# Altium footprint library SolderStation.PcbLib: 37 footprints (part 2 of 3)
Each footprint in its own frame and in the unit in brackets; x right, y up, seen from the top. Pads: shape width x height; smd on the part's side, far side on the other; paste and mask are expansions set on the pad; w line width, h text height; cw(c..) or ccw(c..) is an arc to the next point about the centre after c.
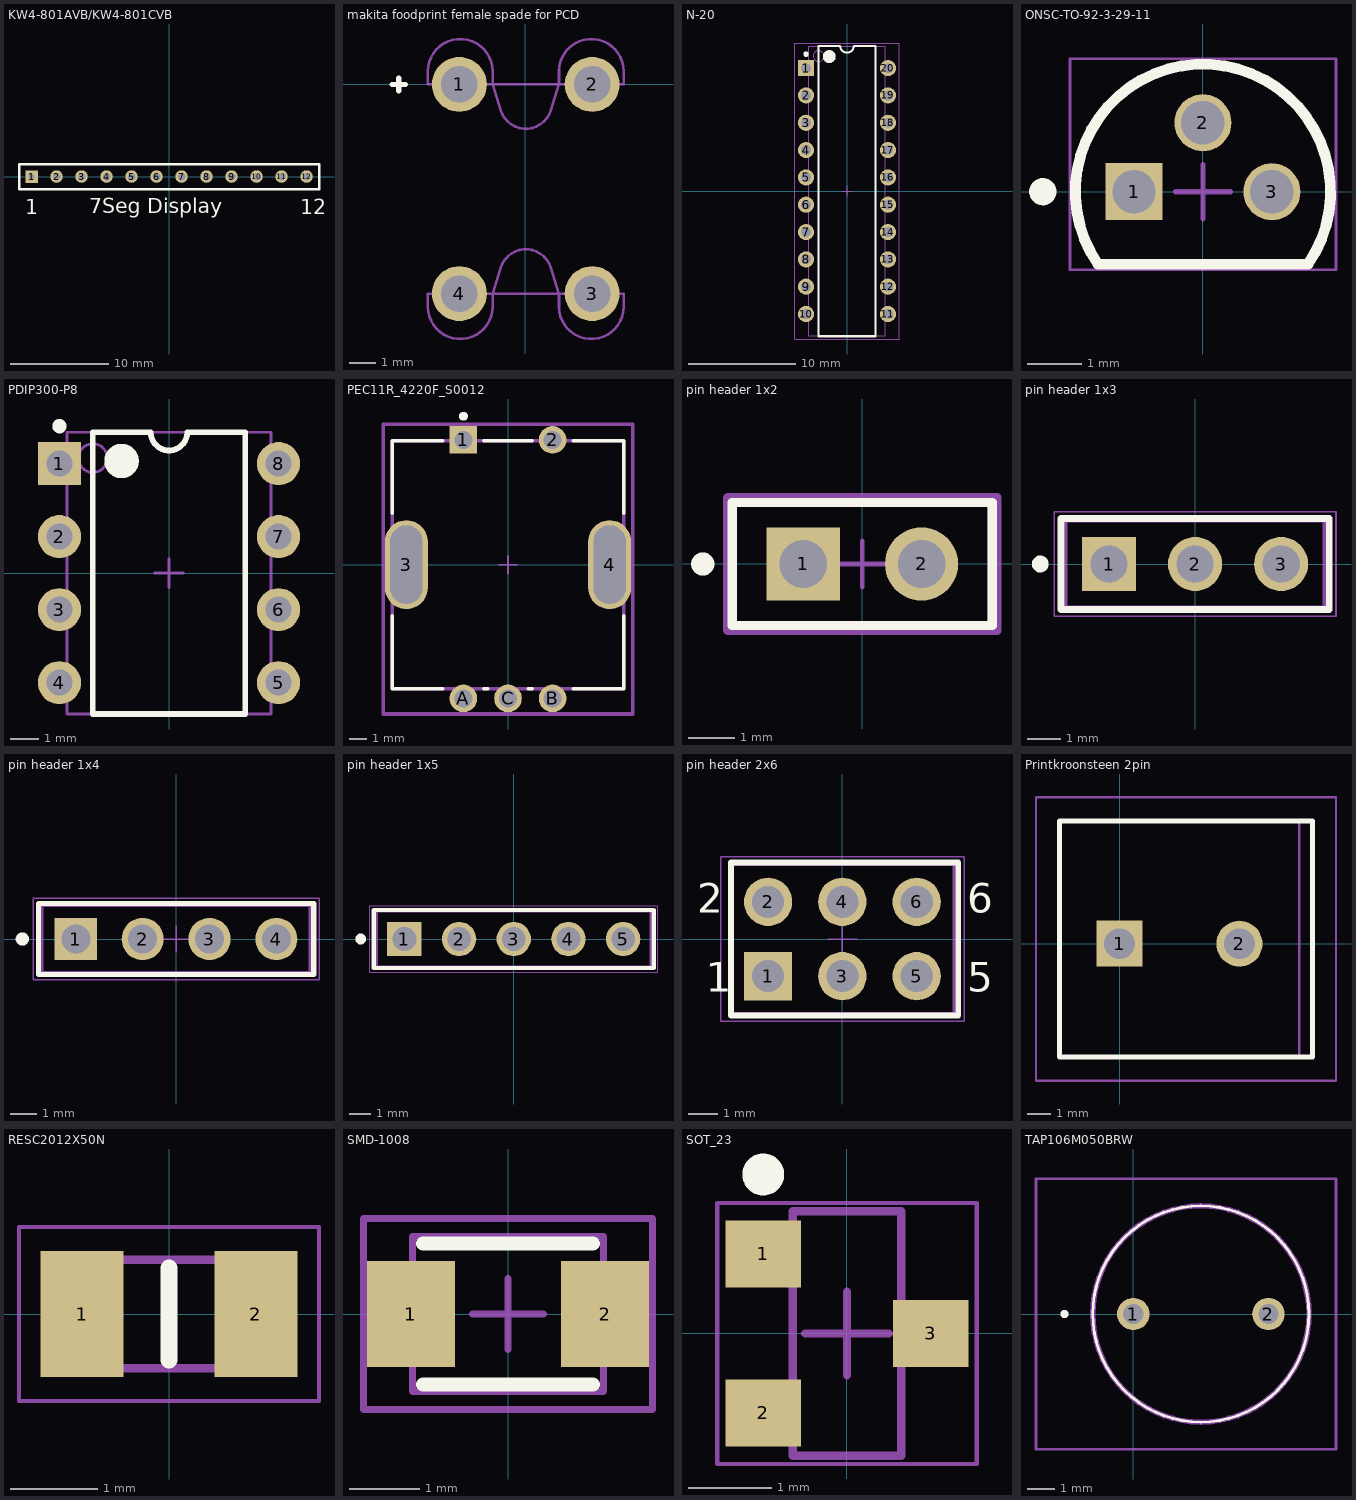
[diagram p1: the footprints below, top view; thin cyan lines are the x and y axes]

## KW4-801AVB/KW4-801CVB [mil] "7_segent display"
pads (12):
  rect 50x50 hole 25: 1(-550,0)
  round 50 hole 30: 2(-450,0) 3(-350,0) 4(-250,0) 5(-150,0) 6(-50,0) 7(50,0) 8(150,0) 9(250,0) 10(350,0) 11(450,0) 12(550,0)
Top Overlay:
  lines w10: -600,-50 600,-50 600,50 -600,50 -600,-50
  text "7Seg Display" at -320,-146.01 h60
  text "1" at -575,-150 h60
  text "12" at 525,-150 h60
3D body "7segment v1.step": height 335.15, standoff -172.73, extent -1409.45,-931.1 1409.45,80.71

## makita foodprint female spade for PCD [mm] "foodprint of 2 spades used for makita terminal"
pads (4):
  round 2.1 hole 1.4: 1(-2.515,0) 2(2.565,0) 3(2.565,-8) 4(-2.515,-8)
Top Overlay:
  lines w0.2: -5.08,0 -4.58,0 ; -4.83,-0.25 -4.83,0.25
Mechanical 15:
  lines w0.1: -0.928,-7 cw(c0.025,-7.302) 0.979,-7 ; -0.928,-1 ccw(c0.025,-0.698) 0.979,-1 ; -0.928,-7 -1.245,-8 ; -0.928,-1 -1.245,0 ; 0.978,-7 1.295,-8 ; 0.978,-1 1.295,0 ; -1.245,-8 -1.245,-8.5 cw(c-2.482,-8.5) -3.72,-8.5 -3.72,-8 -1.245,-8 ; -1.245,-8 1.295,-8 ; -1.245,0 1.295,0 ; -1.245,0 -3.72,0 -3.72,0.5 cw(c-2.482,0.5) -1.244,0.5 -1.245,0 ; 1.295,-8 3.77,-8 3.77,-8.5 cw(c2.533,-8.5) 1.295,-8.5 1.295,-8 ; 1.295,0 3.77,0 3.77,0.5 ccw(c2.533,0.5) 1.295,0.5 1.295,0
3D body "63969-1.stp": height 9.39, standoff -3.8, extent -3.721,-10.542 3.772,-6.29
3D body "63969-1.stp": height 9.39, standoff -3.8, extent -3.696,-1.913 3.797,2.34

## N-20 [mm] "DIP, 20-Leads, Row Spacing 7.62mm, Pitch 2.54mm, Body 25.9x6.6mm"
height 5.33
pads (20):
  rect 1.5x1.5 hole 0.9: 1(-3.81,11.43)
  round 1.5 hole 0.9: 2(-3.81,8.89) 3(-3.81,6.35) 4(-3.81,3.81) 5(-3.81,1.27) 6(-3.81,-1.27) 7(-3.81,-3.81) 8(-3.81,-6.35) 9(-3.81,-8.89) 10(-3.81,-11.43) 11(3.81,-11.43) 12(3.81,-8.89) 13(3.81,-6.35) 14(3.81,-3.81) 15(3.81,-1.27) 16(3.81,1.27) 17(3.81,3.81) 18(3.81,6.35) 19(3.81,8.89) 20(3.81,11.43)
Top Overlay:
  circle w0.25: c-3.81,12.73 r0.125
  circle w0.6: c-1.65,12.5 r0.3
  lines w0.2: -2.65,-13.5 -2.65,13.5 -0.635,13.5 ccw(c0,13.5) 0.635,13.5 2.65,13.5 2.65,-13.5 -2.65,-13.5
Mechanical 13:
  circle w0.1: c-2.65,12.55 r0.5
  lines w0.1: -3.55,-13.45 -3.55,13.45 3.55,13.45 3.55,-13.45 -3.55,-13.45
Mechanical 15:
  lines w0.05: -4.85,-13.75 -4.85,13.75 4.85,13.75 4.85,-13.75 -4.85,-13.75
  lines w0.1: -0.5,0 0.5,0 ; 0,-0.5 0,0.5
3D body: height 5.33, standoff 0.38, extent -3.55,-13.45 3.55,13.45

## ONSC-TO-92-3-29-11 [mm] "TO, 3-Leads, Body Dia 4.7mm, Pitch 1.27mm"
height 7.87
pads (3):
  rect 1.05x1.05 hole 0.8: 1(-1.27,0)
  round 1.05 hole 0.8: 2(0,1.27) 3(1.27,0)
Top Overlay:
  circle w0.25: c-2.95,0 r0.125
  lines w0.2: -1.934,-1.335 cw(c0,0) 1.934,-1.335 -1.934,-1.335
Mechanical 13:
  lines w0.1: -1.934,-1.335 cw(c0,0) 1.934,-1.335 -1.934,-1.335
Mechanical 15:
  lines w0.05: -2.45,-1.435 -2.45,2.45 2.45,2.45 2.45,-1.435 -2.45,-1.435
  lines w0.1: -0.5,0 0.5,0 ; 0,-0.5 0,0.5
3D body: height 7.87, standoff 2.54, extent -2.349,-1.334 2.357,2.359

## PDIP300-P8 [mm] "8-Pin Plastic Dual In-Line Package (PDIP)"
height 5.34
pads (8):
  rect 1.5x1.5 hole 0.9: 1(-3.81,3.81)
  round 1.5 hole 0.9: 2(-3.81,1.27) 3(-3.81,-1.27) 4(-3.81,-3.81) 5(3.81,-3.81) 6(3.81,-1.27) 7(3.81,1.27) 8(3.81,3.81)
Top Overlay:
  circle w0.25: c-3.81,5.11 r0.125
  circle w0.6: c-1.65,3.9 r0.3
  lines w0.2: -2.65,-4.9 -2.65,4.9 -0.635,4.9 ccw(c0,4.9) 0.635,4.9 2.65,4.9 2.65,-4.9 -2.65,-4.9
Mechanical 13:
  circle w0.1: c-2.65,4 r0.5
  lines w0.1: -3.55,-4.9 -3.55,4.9 3.55,4.9 3.55,-4.9 -3.55,-4.9
Mechanical 15:
  lines w0.1: -0.5,0 0.5,0 ; 0,-0.5 0,0.5
3D body: height 4.32, standoff 0, extent -3.55,-4.9 3.55,4.9

## PEC11R_4220F_S0012 [mm]
pads (7):
  rect 1.55x1.55 hole 1 paste-2539.97 mask+0: 1(-2.5,7)
  round 1.55 hole 1 paste-2539.97 mask+0: 2(2.5,7) A(-2.5,-7.5) B(2.5,-7.5) C(0,-7.5)
  rrect100% 2.4x5 hole 4.4 slot 1.8 at 0 deg paste-2539.97 mask+0: 3(-5.7,0) 4(5.7,0)
Top Overlay:
  circle w0.25: c-2.5,8.325 r0.125
  lines w0.2: -6.5,-2.875 -6.5,-6.95 -3.65,-6.95 ; -6.5,2.875 -6.5,6.95 -3.65,6.95 ; -1.35,-6.95 -1.15,-6.95 ; -1.35,6.95 1.35,6.95 ; 1.15,-6.95 1.35,-6.95 ; 3.65,-6.95 6.5,-6.95 6.5,-2.875 ; 3.65,6.95 6.5,6.95 6.5,2.875
Top 3D Body:
  lines w0.2: -6.5,-6.95 6.5,-6.95 6.5,6.95 -6.5,6.95 -6.5,-6.95
Top Courtyard:
  lines w0.2: -7,-8.375 7,-8.375 7,7.875 -7,7.875 -7,-8.375
Top Assembly:
  lines w0.2: -7,-8.375 7,-8.375 7,7.875 -7,7.875 -7,-8.375
Top Component Center:
  lines w0.1: -0.5,0 0.5,0 ; 0,-0.5 0,0.5
3D body "Switch_Bourns_PEC11R-4220F-S0012_eec.STEP": height 0.25, standoff 0, extent -7,-8.375 7,7.875

## pin header 1x2 [mm]
pads (2):
  rect 1.57x1.57 hole 1.02 paste-2539.97 mask+0: 1(-1.27,0)
  round 1.57 hole 1.02 paste-2539.97 mask+0: 2(1.27,0)
Top Overlay:
  circle w0.25: c-3.425,0 r0.125
  lines w0.2: -2.79,-1.32 2.79,-1.32 2.79,1.32 -2.79,1.32 -2.79,-1.32
Top 3D Body:
  lines w0.2: -2.79,-1.32 2.79,-1.32 2.79,1.32 -2.79,1.32 -2.79,-1.32
Top Courtyard:
  lines w0.2: -2.89,-1.42 2.89,-1.42 2.89,1.42 -2.89,1.42 -2.89,-1.42
Top Assembly:
  lines w0.2: -2.89,-1.42 2.89,-1.42 2.89,1.42 -2.89,1.42 -2.89,-1.42
Top Component Center:
  lines w0.1: -0.5,0 0.5,0 ; 0,-0.5 0,0.5
3D body "Conn_Harwin_M20-9990246_eec.STEP": height 0.25, standoff 0, extent -2.89,-1.42 2.89,1.42

## pin header 1x3 [mm] "Pin Header, pitch 2.54 mm, THT, Vertical, single row, 3p"
height 8.54
pads (3):
  rect 1.6x1.6 hole 1.1: 1(-2.54,0)
  round 1.6 hole 1.1: 2(0,0) 3(2.54,0)
Top Overlay:
  circle w0.25: c-4.572,0 r0.125
  lines w0.2: -3.96,-1.345 -3.96,1.345 3.96,1.345 3.96,-1.345 -3.96,-1.345
Mechanical 13:
  lines w0.1: -3.81,-1.27 3.81,-1.27 3.81,1.27 -3.81,1.27 -3.81,-1.27
Mechanical 15:
  lines w0.05: -0.5,0 0.5,0 ; 0,-0.5 0,0.5 ; -4.16,-1.545 4.16,-1.545 4.16,1.545 -4.16,1.545 -4.16,-1.545
3D body "61300311121.stp": height 8.57, standoff -2.97, extent -3.81,-1.27 3.81,1.27

## pin header 1x4 [mm] "Pin Header, pitch 2.54 mm, THT, Vertical, single row, 4p"
height 8.54
pads (4):
  rect 1.6x1.6 hole 1.1: 1(-3.81,0)
  round 1.6 hole 1.1: 2(-1.27,0) 3(1.27,0) 4(3.81,0)
Top Overlay:
  circle w0.25: c-5.842,0 r0.125
  lines w0.2: -5.23,-1.345 -5.23,1.345 5.23,1.345 5.23,-1.345 -5.23,-1.345
Mechanical 13:
  lines w0.1: -5.08,-1.27 5.08,-1.27 5.08,1.27 -5.08,1.27 -5.08,-1.27
Mechanical 15:
  lines w0.05: -0.5,0 0.5,0 ; 0,-0.5 0,0.5 ; -5.43,-1.545 5.43,-1.545 5.43,1.545 -5.43,1.545 -5.43,-1.545
3D body "61300411121.stp": height 8.57, standoff -2.97, extent -5.08,-1.27 5.08,1.27

## pin header 1x5 [mm] "Pin Header, pitch 2.54 mm, THT, Vertical, single row, 5p"
height 8.54
pads (5):
  rect 1.6x1.6 hole 1.1: 1(-5.08,0)
  round 1.6 hole 1.1: 2(-2.54,0) 3(0,0) 4(2.54,0) 5(5.08,0)
Top Overlay:
  circle w0.25: c-7.112,0 r0.125
  lines w0.2: -6.5,-1.345 6.5,-1.345 6.5,1.345 -6.5,1.345 -6.5,-1.345
Mechanical 13:
  lines w0.1: -6.35,-1.27 -6.35,1.27 6.35,1.27 6.35,-1.27 -6.35,-1.27
Mechanical 15:
  lines w0.05: -0.5,0 0.5,0 ; 0,-0.5 0,0.5 ; -6.7,-1.545 -6.7,1.545 6.7,1.545 6.7,-1.545 -6.7,-1.545
3D body "61300511121.stp": height 8.57, standoff -2.97, extent -6.35,-1.27 6.35,1.27

## pin header 2x6 [mm] "Pin Header, pitch 2.54 mm, THT, Vertical, dual row, 6p"
height 8.54
pads (6):
  rect 1.65x1.65 hole 1.1: 1(-2.54,-1.27)
  round 1.65 hole 1.1: 2(-2.54,1.27) 3(0,-1.27) 4(0,1.27) 5(2.54,-1.27) 6(2.54,1.27)
Top Overlay:
  lines w0.2: -3.81,-2.615 3.96,-2.615 3.96,2.615 -3.81,2.615 -3.81,-2.615
  text "6" at 4.27,0.9 h1.02
  text "5" at 4.27,-1.8 h1.02
  text "2" at -4.97,0.9 h1.02
  text "1" at -4.67,-1.8 h1.02
Mechanical 13:
  lines w0.1: -3.81,-2.54 3.81,-2.54 3.81,2.54 -3.81,2.54 -3.81,-2.54
Mechanical 15:
  lines w0.05: -0.5,0 0.5,0 ; 0,-0.5 0,0.5 ; -4.16,-2.815 -4.16,2.815 4.16,2.815 4.16,-2.815 -4.16,-2.815
3D body "61300621121.stp": height 8.59, standoff -2.95, extent -3.81,-2.54 3.81,2.54

## Printkroonsteen 2pin [mm] "printkroonsteen 2pin 1716020000"
pads (2):
  rect 1.95x1.95 hole 1.3: 1(0,0)
  round 1.95 hole 1.3: 2(5.08,0)
Top Overlay:
  lines w0.2: -2.54,-4.8 -2.54,5.2 8.17,5.2 8.17,-4.8 -2.54,-4.8
Mechanical 13:
  lines w0.1: 7.62,-4.8 7.62,5.2 ; -2.54,-4.8 -2.54,5.2 8.17,5.2 8.17,-4.8 -2.54,-4.8
Mechanical 15:
  lines w0.1: -3.54,-5.8 -3.54,6.2 9.17,6.2 9.17,-5.8 -3.54,-5.8
3D body "1716020000.stp": height 13.8, standoff -3.5, extent -2.54,-4.8 8.17,5.2

## RESC2012X50N [mm]
pads (2):
  rect 0.95x1.45 smd: 1(-1,0) 2(1,0)
Top Overlay:
  lines w0.2: 0,-0.525 0,0.525
Mechanical 13:
  lines w0.1: -1.025,-0.625 -1.025,0.625 1.025,0.625 1.025,-0.625 -1.025,-0.625
Mechanical 15:
  lines w0.05: -1.725,-1 -1.725,1 1.725,1 1.725,-1 -1.725,-1
3D body "CRCW08055K60JNEA.stp": height 0.5, standoff 0, extent -1.025,-0.625 1.025,0.625

## SMD-1008 [mm] "Chip Inductor, 2-Leads, Body 2.5 x 2.0 mm"
height 1.1
pads (2):
  rect 1.25x1.5 smd: 1(-1.375,0) 2(1.375,0)
Top Overlay:
  lines w0.2: -1.2,-1 1.2,-1 ; -1.2,1 1.2,1
Mechanical 13:
  lines w0.1: -1.35,-1.1 1.35,-1.1 1.35,1.1 -1.35,1.1 -1.35,-1.1
Mechanical 15:
  lines w0.1: -0.5,0 0.5,0 ; 0,-0.5 0,0.5 ; -2.05,-1.35 2.05,-1.35 2.05,1.35 -2.05,1.35 -2.05,-1.35
3D body "74479787147.stp": height 0.89, standoff -0.01, extent -1.25,-1 1.25,1

## SOT_23 [mm] "SOT23, 3-Leads, Body 2.92x1.3mm, Pitch 0.95mm"
height 1.11
pads (3):
  rect 0.9x0.8 smd: 1(-1,0.95) 2(-1,-0.95) 3(1,0)
Top Overlay:
  circle w0.25: c-1,1.9 r0.125
Mechanical 13:
  lines w0.1: -0.65,-1.46 -0.65,1.46 0.65,1.46 0.65,-1.46 -0.65,-1.46
Mechanical 15:
  lines w0.05: -1.55,-1.56 -1.55,1.56 1.55,1.56 1.55,-1.56 -1.55,-1.56
  lines w0.1: -0.5,0 0.5,0 ; 0,-0.5 0,0.5
3D body: height 1.11, standoff 0.01, extent -0.65,-1.46 0.65,1.46

## TAP106M050BRW [mm]
pads (2):
  round 1.2 hole 0.75: 1(0,0) 2(5,0)
Top Overlay:
  lines w0.1: -1.5,0 ccw(c2.5,0) 6.5,0 ccw(c2.5,0) -1.5,0
  lines w0.2: -2.6,0 ccw(c-2.55,0) -2.5,0 ; -2.6,0 cw(c-2.55,0) -2.5,0 ; -2.6,0 ccw(c-2.55,0) -2.5,0
Mechanical 15:
  lines w0.2: -1.5,0 ccw(c2.5,0) 6.5,0 ccw(c2.5,0) -1.5,0
Bottom Assembly:
  lines w0.1: -3.6,-5 7.5,-5 7.5,5 -3.6,5 -3.6,-5